# Altium footprint library RTK30.PcbLib: 2 footprints
Each footprint in its own frame and in the unit in brackets; x right, y up, seen from the top. Pads: shape width x height; smd on the part's side, far side on the other; paste and mask are expansions set on the pad; w line width, h text height; cw(c..) or ccw(c..) is an arc to the next point about the centre after c.
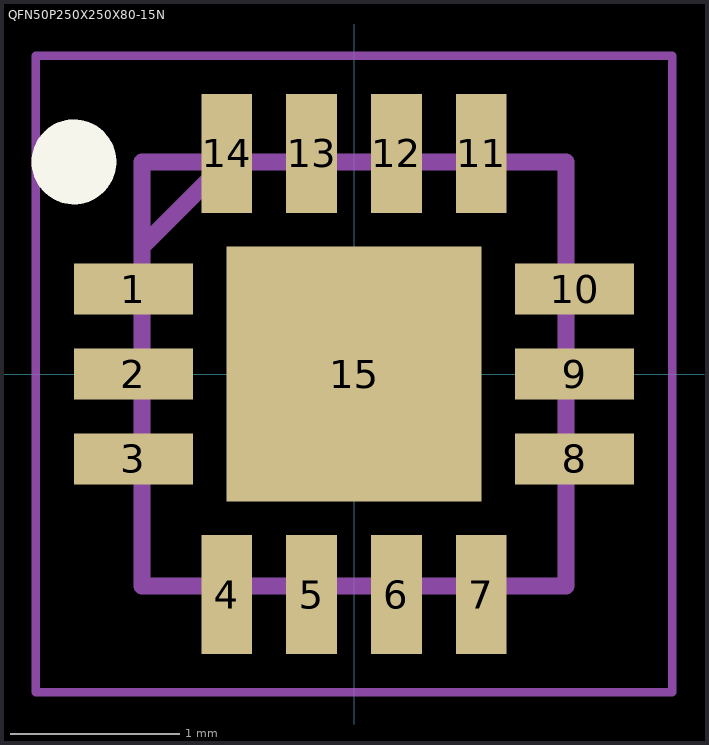
[diagram p0: the footprints below, top view; thin cyan lines are the x and y axes]

## PCBComponent_1 [mm]

## QFN50P250X250X80-15N [mm]
pads (15):
  rect 0.7x0.3 smd: 1(-1.3,0.5) 2(-1.3,0) 3(-1.3,-0.5) 8(1.3,-0.5) 9(1.3,0) 10(1.3,0.5)
  rect 0.3x0.7 smd: 4(-0.75,-1.3) 5(-0.25,-1.3) 6(0.25,-1.3) 7(0.75,-1.3) 11(0.75,1.3) 12(0.25,1.3) 13(-0.25,1.3) 14(-0.75,1.3)
  rect 1.5x1.5 smd: 15(0,0)
Top Overlay:
  circle w0.25: c-1.65,1.25 r0.125
Mechanical 13:
  lines w0.1: -1.25,0.75 -0.75,1.25 ; -1.25,-1.25 -1.25,1.25 1.25,1.25 1.25,-1.25 -1.25,-1.25
Mechanical 15:
  lines w0.05: -1.875,-1.875 -1.875,1.875 1.875,1.875 1.875,-1.875 -1.875,-1.875
3D body "FUSB302B11MPX.stp": height 0.8, standoff 0, extent -1.3,-1.3 1.3,1.3